# EAGLE library part PIC18F2520 (library WallerLabLib)
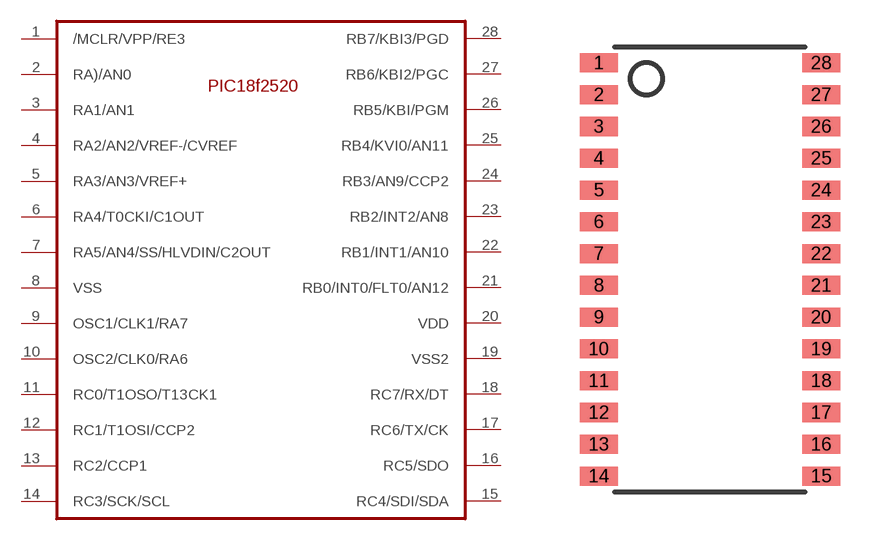
[diagram p4: symbol with the pads of 28-SO; footprint 28-SO]

Designator prefix -

## PIC18F2520V1  [28-SO]
1  /MCLR/VPP/RE3
2  RA)/AN0
3  RA1/AN1
4  RA2/AN2/VREF-/CVREF
5  RA3/AN3/VREF+
6  RA4/T0CKI/C1OUT
7  RA5/AN4/SS/HLVDIN/C2OUT
8  VSS
9  OSC1/CLK1/RA7
10  OSC2/CLK0/RA6
11  RC0/T1OSO/T13CK1
12  RC1/T1OSI/CCP2
13  RC2/CCP1
14  RC3/SCK/SCL
15  RC4/SDI/SDA
16  RC5/SDO
17  RC6/TX/CK
18  RC7/RX/DT
19  VSS2
20  VDD
21  RB0/INT0/FLT0/AN12
22  RB1/INT1/AN10
23  RB2/INT2/AN8
24  RB3/AN9/CCP2
25  RB4/KVI0/AN11
26  RB5/KBI/PGM
27  RB6/KBI2/PGC
28  RB7/KBI3/PGD

## Footprint 28-SO (pad centres in mm)
smd 1.524 x 0.762: 1 -4.445,8.255; 2 -4.445,6.985; 3 -4.445,5.715; 4 -4.445,4.445; 5 -4.445,3.175; 6 -4.445,1.905; 7 -4.445,0.635; 8 -4.445,-0.635; 9 -4.445,-1.905; 10 -4.445,-3.175; 11 -4.445,-4.445; 12 -4.445,-5.715; 13 -4.445,-6.985; 14 -4.445,-8.255; 15 4.445,-8.255; 16 4.445,-6.985; 17 4.445,-5.715; 18 4.445,-4.445; 19 4.445,-3.175; 20 4.445,-1.905; 21 4.445,-0.635; 22 4.445,0.635; 23 4.445,1.905; 24 4.445,3.175; 25 4.445,4.445; 26 4.445,5.715; 27 4.445,6.985; 28 4.445,8.255